# EAGLE library part MC14067BDWG (library on-semiconductor-01)
Analog Multiplexers/Demultiplexers
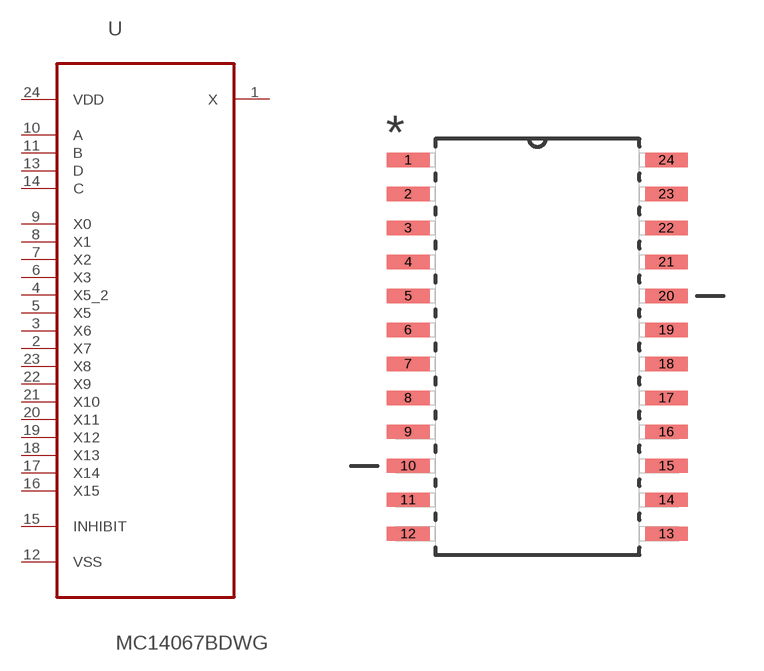
[diagram p253: symbol with the pads of SOIC127P1030X265-24N; footprint SOIC127P1030X265-24N]

Designator prefix U

## MC14067BDWG (MPN: MC14067BDWG; OC_FARNELL: 9664882; OC_NEWARK: 45J1070; PACKAGE: SOIC-24; SUPPLIER: On Semiconductor)  [SOIC127P1030X265-24N]
1  X
2  X7
3  X6
4  X5_2
5  X5
6  X3
7  X2
8  X1
9  X0
10  A  in
11  B  in
12  VSS  pwr
13  D  in
14  C  in
15  INHIBIT  in
16  X15
17  X14
18  X13
19  X12
20  X11
21  X10
22  X9
23  X8
24  VDD  pwr

## Footprint SOIC127P1030X265-24N (pad centres in mm)
smd 1.6 x 0.533: 1 -4.826,6.985; 2 -4.826,5.715; 3 -4.826,4.445; 4 -4.826,3.175; 5 -4.826,1.905; 6 -4.826,0.635; 7 -4.826,-0.635; 8 -4.826,-1.905; 9 -4.826,-3.175; 10 -4.826,-4.445; 11 -4.826,-5.715; 12 -4.826,-6.985; 13 4.826,-6.985; 14 4.826,-5.715; 15 4.826,-4.445; 16 4.826,-3.175; 17 4.826,-1.905; 18 4.826,-0.635; 19 4.826,0.635; 20 4.826,1.905; 21 4.826,3.175; 22 4.826,4.445; 23 4.826,5.715; 24 4.826,6.985